# EAGLE library part BM05B-XASS-TF(LF)(SN) (library Headers)
CONN HEADER SMD 5POS 2.5MM Manufacturer's datasheet <http://www.jst-mfg.com/product/pdf/eng/eXA1.pdf>
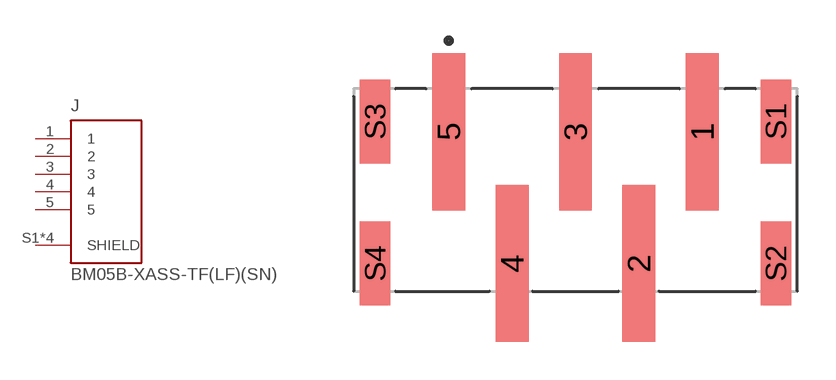
[diagram p47: symbol with the pads of BM05B-XASS-TF(LF)(SN); footprint BM05B-XASS-TF(LF)(SN)]

Designator prefix J

## BM05B-XASS-TF(LF)(SN) (CREATED_BY: PCBLayout.com; DIGIKEY_PN: 455-2024-1-ND; MANUFACTURER: JST Sales America Inc.; MPN: BM05B-XASS-TF(LF)(SN))  [BM05B-XASS-TF(LF)(SN)]
1  1  pas
2  2  pas
3  3  pas
4  4  pas
5  5  pas
S1  SHIELD  pwr
S2  SHIELD  pwr
S3  SHIELD  pwr
S4  SHIELD  pwr

## Footprint BM05B-XASS-TF(LF)(SN) (pad centres in mm)
smd 1.3 x 6.2: 1 5,2.6; 2 2.5,-2.6; 3 0,2.6; 4 -2.5,-2.6; 5 -5,2.6
smd 1.2 x 3.3: S1 7.9,3; S2 7.9,-2.6; S3 -7.9,3; S4 -7.9,-2.6